# Altium integrated library TERMINAL_BLOCK_2POS.IntLib: 1 symbol
Pins are listed as number, name and electrical type; pins without a type are passive.

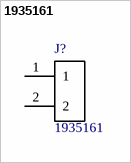
[diagram p0: symbol 1935161]

## 1935161
designator J?
Conn Terminal Blocks 2 POS 5mm Solder ST Thru-Hole 16A; MF: Phoenix Contact; Package: None; Digi-Key_Purchase_URL: https://www.digikey.com.br/product-detail/en/phoenix-contact/1935161/277-1667-ND/568614?utm_source=snapeda&utm_medium=aggregator&utm_campaign=symbol; MP: 1935161; Digi-Key_Part_Number: 277-1667-ND; SnapEDA_Link: https://www.snapeda.com/parts/1935161/Phoenix%20Contact/view-part/?ref=snap; Value: *
footprint PHOENIX_1935161
pins: 1, 2